# Altium footprint library PCBLibPutallaz.PcbLib: 41 footprints (part 2 of 3)
Each footprint in its own frame and in the unit in brackets; x right, y up, seen from the top. Pads: shape width x height; smd on the part's side, far side on the other; paste and mask are expansions set on the pad; w line width, h text height; cw(c..) or ccw(c..) is an arc to the next point about the centre after c.
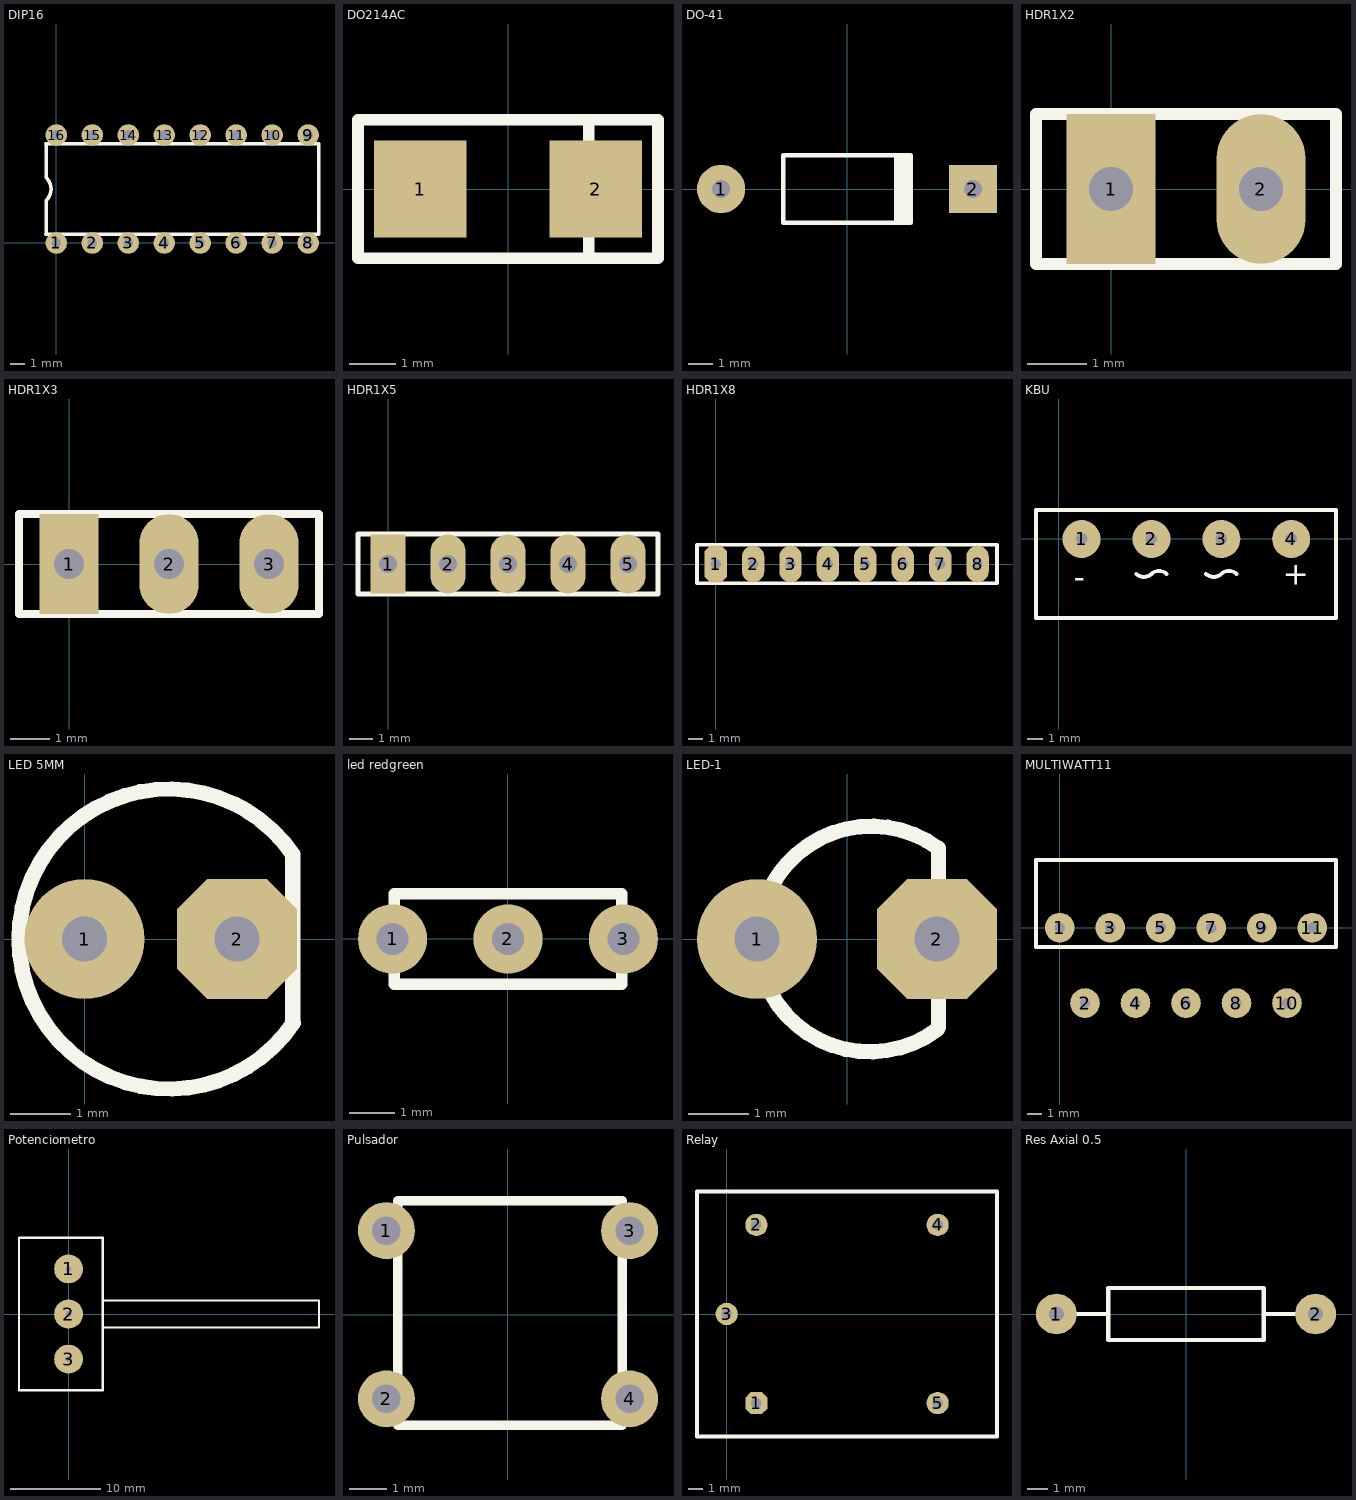
[diagram p1: the footprints below, top view; thin cyan lines are the x and y axes]

## DIP16 [mil]
pads (16):
  round 60 hole 27.56: 1(0,0) 2(100,0) 3(200,0) 4(300,0) 5(400,0) 6(500,0) 7(600,0) 8(700,0) 9(700,300) 10(600,300) 11(500,300) 12(400,300) 13(300,300) 14(200,300) 15(100,300) 16(0,300)
Top Overlay:
  lines w10: -28.94,24.02 728.94,24.02 728.94,275.98 -28.94,275.98 ; -27.56,25.39 -27.56,118.5 ccw(c-59.06,150) -27.56,181.5 -27.56,274.61

## DO214AC [mm]
pads (2):
  rect 2x2.1 smd: 1(-1.9,0) 2(1.9,0)
Top Overlay:
  lines w0.254: 1.75,-1.5 1.75,1.5 ; -3.25,-1.5 -3.25,1.5 3.25,1.5 3.25,-1.5 -3.25,-1.5
3D body "1N4007W--3DModel-STEP-269445.STEP": height 1.3, standoff 0, extent -1.9,-0.9 1.9,0.9

## DO-41 [mm] "Diode, Axial; Body 5.2 x 2.7 mm (LxDia. max), Lead Dia. 0.86 mm (max)"
height 2.8
pads (2):
  round 2 hole 0.75: 1(-5.23,0)
  rect 2x2 hole 0.75: 2(5.23,0)
Top Overlay:
  rectangle: 1.95,-1.4 2.75,1.4
  lines w0.2: 2.65,-1.4 -2.65,-1.4 -2.65,1.4 2.65,1.4

## HDR1X2 [mm] "Connector; Header; 2 Position"
pads (2):
  rect 1.5x2.54 hole 0.75: 1(0,0)
  oval 1.5x2.54 hole 0.75: 2(2.54,0)
Top Overlay:
  lines w0.2: -1.27,-1.27 -1.27,1.27 3.81,1.27 3.81,-1.27 -1.27,-1.27
3D body "MTLW-101-08-G-D-410.stp": height 11.94, standoff -1.52, extent -1.279,-1.27 3.75,1.27

## HDR1X3 [mm] "Connector; Header; 3 Position"
pads (3):
  rect 1.5x2.54 hole 0.75: 1(0,0)
  oval 1.5x2.54 hole 0.75: 2(2.54,0) 3(5.08,0)
Top Overlay:
  lines w0.2: -1.27,-1.27 -1.27,1.27 6.35,1.27 6.35,-1.27 -1.27,-1.27
3D body "TSW-101-07-T-T.stp": height 8.38, standoff -2.54, extent -1.27,-1.27 6.35,1.27

## HDR1X5 [mm] "Connector; Header; 5 Position"
pads (5):
  rect 1.5x2.5 hole 0.75: 1(0,0)
  oval 1.5x2.5 hole 0.75: 2(2.54,0) 3(5.08,0) 4(7.62,0) 5(10.16,0)
Top Overlay:
  lines w0.2: -1.27,-1.27 11.43,-1.27 11.43,1.27 -1.27,1.27 -1.27,-1.27

## HDR1X8 [mm]
pads (8):
  oct 1.524x2.5 hole 0.7: 1(0,0)
  oval 1.524x2.5 hole 0.7: 2(2.54,0) 3(5.08,0) 4(7.62,0) 5(10.16,0) 6(12.7,0) 7(15.24,0) 8(17.78,0)
Top Overlay:
  lines w0.254: -1.27,-1.3 -1.27,1.3 19.1,1.3 19.1,-1.3 -1.27,-1.3

## KBU [mm]
pads (4):
  round 2.5 hole 0.762: 1(1.5,0) 2(6.1,0) 3(10.7,0) 4(15.3,0)
Top Overlay:
  lines w0.254: 5.1,-2.3 ccw(c5.6,-1.775) 6.1,-2.3 cw(c6.6,-2.825) 7.1,-2.3 ; 9.7,-2.3 ccw(c10.2,-1.775) 10.7,-2.3 cw(c11.2,-2.825) 11.7,-2.3 ; -1.5,-5.2 -1.5,1.9 18.25,1.9 18.25,-5.2 -1.5,-5.2
  text "-" at 1,-3.25 h1.52
  text "+" at 14.75,-3 h1.52
3D body "KBU6M.STEP": height 12.7, standoff -14.2, extent 1.15,-2.5 15.85,1.3

## LED 5MM [mm] "LED; 2 Leads"
pads (2):
  round 2 hole 0.75: 1(0,0)
  oct 2x2 hole 0.75: 2(2.54,0)
Top Overlay:
  lines w0.254: 3.469,-1.383 3.469,1.411 ccw(c1.405,0) -1.095,0 ccw(c1.405,0) 3.476,-1.4
3D body "WP7113ID--3DModel-STEP-510211.STEP": height 9.6, standoff -26, extent -1.717,-3 3.717,2.9

## led redgreen [mil]
pads (3):
  round 60 hole 27.56: 1(-100,0) 2(0,0) 3(100,0)
Top Overlay:
  lines w10: -98.43,-39.37 98.43,-39.37 98.43,39.37 -98.43,39.37 -98.43,-39.37

## LED-1 [mm] "LED; 2 Leads"
pads (2):
  round 2 hole 0.75: 1(-1.5,0)
  oct 2x2 hole 0.75: 2(1.5,0)
Top Overlay:
  lines w0.254: -1.5,0 ccw(c0.381,0) 1.508,-1.506 ; -1.476,0 cw(c0.405,0) 1.524,1.512 ; 1.524,-1.473 1.524,1.48

## MULTIWATT11 [mm]
pads (11):
  round 2 hole 0.7: 1(0,0) 2(1.7,-5.08) 3(3.4,0) 4(5.1,-5.08) 5(6.8,0) 6(8.5,-5.08) 7(10.2,0) 8(11.9,-5.08) 9(13.6,0) 10(15.3,-5.08) 11(17,0)
Top Overlay:
  lines w0.254: -1.6,-1.3 -1.6,1.35 -1.6,4.55 18.6,4.55 18.6,1.35 18.6,-1.3 -1.6,-1.3

## Potenciometro [mm]
pads (3):
  round 3.2 hole 0.7: 1(0,5) 2(0,0) 3(0,-5)
Top Overlay:
  lines w0.254: 3.8,-1.5 27.8,-1.5 27.8,1.5 3.8,1.5 ; -5.5,-8.45 3.8,-8.45 3.8,8.45 -5.5,8.45 -5.5,-8.45

## Pulsador [mil]
pads (4):
  round 60 hole 30: 1(-127.95,88.58) 2(-127.95,-88.58) 3(127.95,88.58) 4(127.95,-88.58)
Top Overlay:
  lines w10: -116.14,-116.14 -116.14,120.08 120.08,120.08 120.08,-116.14 -116.14,-116.14

## Relay [mm]
pads (5):
  oct 1.5x1.5 hole 0.7: 1(2,-6)
  round 1.5 hole 0.7: 2(2,6) 3(0,0) 4(14.2,6) 5(14.2,-6)
Top Overlay:
  lines w0.254: -2,-8.25 -2,8.25 18.2,8.25 18.2,-8.25 -2,-8.25

## Res Axial 0.5 [mm] "Axial Device, Thru-Hole; 2 Leads; 0.5 in Pin Spacing"
height 2.54
pads (2):
  round 2 hole 0.75: 1(-6.35,0) 2(6.35,0)
Top Overlay:
  lines w0.2: -5.334,0 -3.81,0 ; 3.81,0 5.334,0 ; -3.81,-1.27 3.81,-1.27 3.81,1.27 -3.81,1.27 -3.81,-1.27
3D body "MFR-25FTE52-1R--3DModel-STEP-269445.STEP": height 2.59, standoff -23.7, extent -5.1,-1.25 5,1.35